# Altium footprint library PH1.27.PcbLib: 2 footprints
Each footprint in its own frame and in the unit in brackets; x right, y up, seen from the top. Pads: shape width x height; smd on the part's side, far side on the other; paste and mask are expansions set on the pad; w line width, h text height; cw(c..) or ccw(c..) is an arc to the next point about the centre after c.
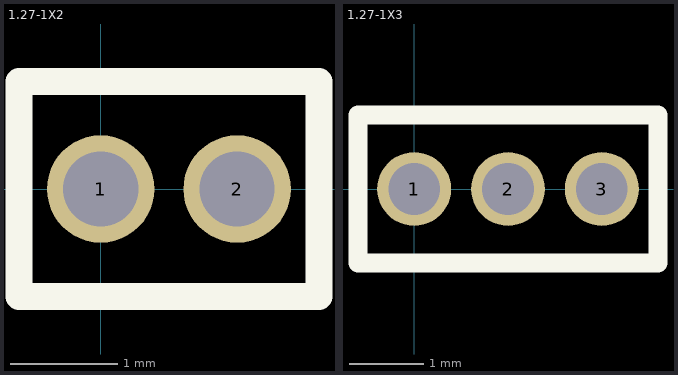
[diagram p0: the footprints below, top view; thin cyan lines are the x and y axes]

## 1.27-1X2 [mm]
pads (2):
  round 1 hole 0.7: 1(0,0) 2(1.27,0)
Top Overlay:
  lines w0.254: -0.76,-1 2.032,-1 2.032,1 -0.76,1 -0.76,-1
Mechanical 5:
  circle w0.25: c1.27,0 r0.125
  circle w0.25: c0,0 r0.125

## 1.27-1X3 [mm]
pads (3):
  round 1 hole 0.7: 1(0,0) 2(1.27,0) 3(2.54,0)
Top Overlay:
  lines w0.254: -0.76,-1 -0.76,1 3.3,1 3.3,-1 -0.76,-1
Mechanical 5:
  circle w0.25: c0,0 r0.125
  circle w0.25: c1.27,0 r0.125
  circle w0.25: c2.54,0 r0.125